# Altium footprint library PCB_PassiveRes.PcbLib: 7 footprints
Each footprint in its own frame and in the unit in brackets; x right, y up, seen from the top. Pads: shape width x height; smd on the part's side, far side on the other; paste and mask are expansions set on the pad; w line width, h text height; cw(c..) or ccw(c..) is an arc to the next point about the centre after c.
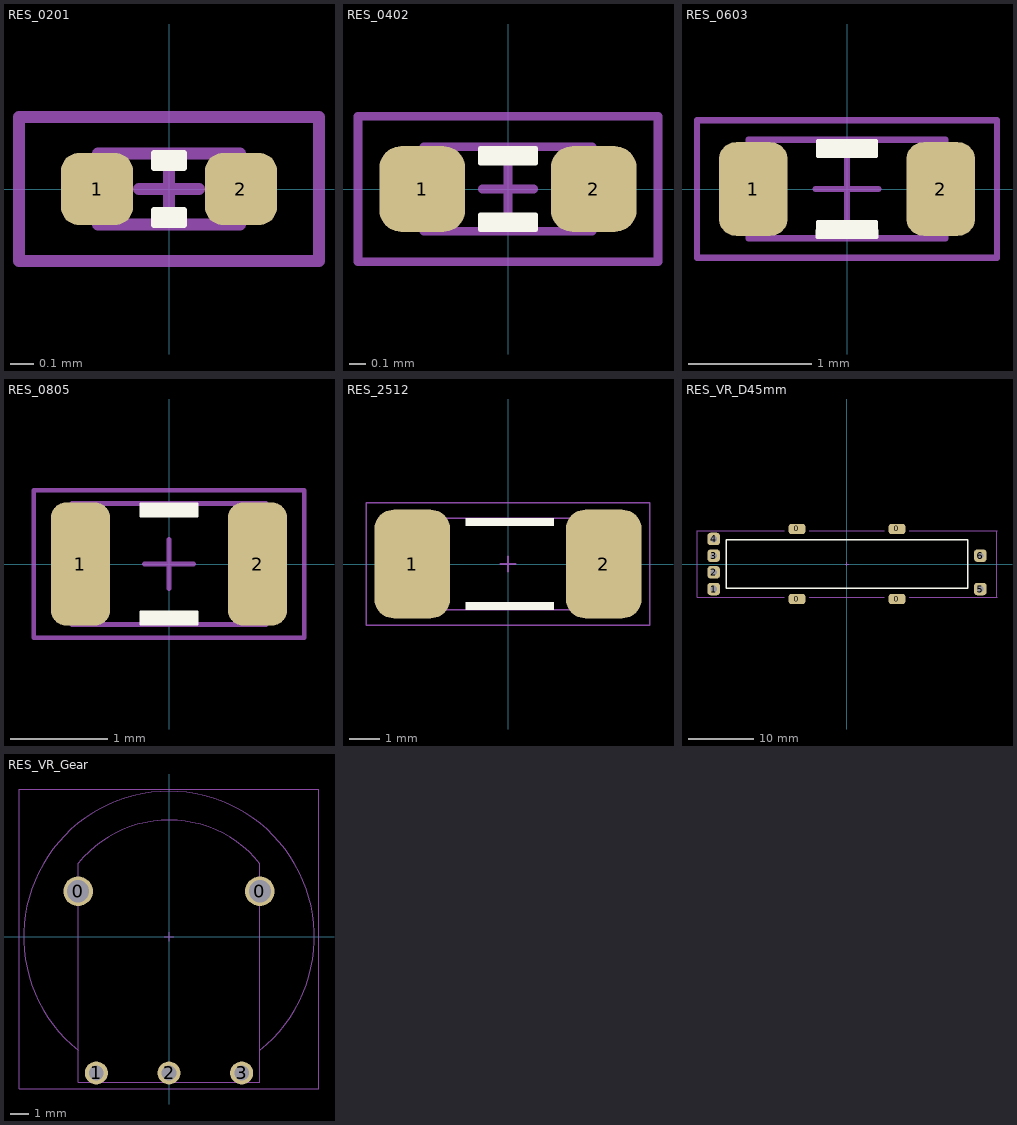
[diagram p0: the footprints below, top view; thin cyan lines are the x and y axes]

## RES_0201 [mil]
height 9.06
pads (2):
  rrect50% 12x12 smd: 1(-12,0) 2(12,0)
Top Overlay:
  region: -2.5,6 2.5,6 2.5,3.5 -2.5,3.5
  region: 2.5,-6 -2.5,-6 -2.5,-3.5 2.5,-3.5
  lines w1: -2.5,-6 -2.5,-3.5 2.5,-3.5 2.5,-6 -2.5,-6 ; -2.5,3.5 2.5,3.5 2.5,6 -2.5,6 -2.5,3.5
Mechanical 13:
  lines w2: -5,0 5,0 ; 0,-5 0,5 ; -11.81,-5.91 -11.81,5.91 11.81,5.91 11.81,-5.91 -11.81,-5.91
T-Component:
  lines w2: -25,-12 -25,12 25,12 25,-12 -25,-12
  text ".Designator" at -20,-7.5 h15
3D body "RESC0603X02L.step": height 9.06, standoff 0, extent -11.81,-5.9 11.81,5.91

## RES_0402 [mil]
height 13.78
pads (2):
  rrect50% 20x20 smd: 1(-20,0) 2(20,0)
Top Overlay:
  region: 6.5,-9.5 -6.5,-9.5 -6.5,-6 6.5,-6
  region: -6.5,9.5 6.5,9.5 6.5,6 -6.5,6
  lines w1: -6.5,-9.5 6.5,-9.5 6.5,-6 -6.5,-6 -6.5,-9.5 ; -6.5,6 -6.5,9.5 6.5,9.5 6.5,6 -6.5,6
Mechanical 13:
  lines w2: -6,0 6,0 ; 0,-6 0,6 ; -19.69,-9.84 -19.69,9.84 19.68,9.84 19.68,-9.84 -19.69,-9.84
T-Component:
  lines w2: -35,-17 35,-17 35,17 -35,17 -35,-17
  text ".Designator" at -25,-10 h20
3D body "RESC1005X03L.step": height 13.78, standoff 0, extent -19.68,-9.84 19.69,9.85

## RES_0603 [mil]
height 17.72
pads (2):
  rrect50% 22x30 smd: 1(-30,0) 2(30,0)
Top Overlay:
  region: 9.5,-15.5 -9.5,-15.5 -9.5,-10.5 9.5,-10.5
  region: -9.5,15.5 9.5,15.5 9.5,10.5 -9.5,10.5
  lines w1: -9.5,-15.5 -9.5,-10.5 9.5,-10.5 9.5,-15.5 -9.5,-15.5 ; -9.5,10.5 9.5,10.5 9.5,15.5 -9.5,15.5 -9.5,10.5
Mechanical 13:
  lines w2: -10,0 10,0 ; 0,-10 0,10 ; -31.5,-15.75 31.5,-15.75 31.5,15.75 -31.5,15.75 -31.5,-15.75
T-Component:
  lines w2: -48,-22 -48,22 48,22 48,-22 -48,-22
  text ".Designator" at -35,-15 h30
3D body "RESC1608X05L.step": height 17.72, standoff 0, extent -31.49,-15.74 31.5,15.75

## RES_0805 [mil]
height 23.62
pads (2):
  rrect50% 24x50 smd: 1(-36,0) 2(36,0)
Top Overlay:
  region: -11.5,24.5 11.5,24.5 11.5,19.5 -11.5,19.5
  region: 11.5,-24.5 -11.5,-24.5 -11.5,-19.5 11.5,-19.5
  lines w1: -11.5,-24.5 -11.5,-19.5 11.5,-19.5 11.5,-24.5 -11.5,-24.5 ; -11.5,19.5 11.5,19.5 11.5,24.5 -11.5,24.5 -11.5,19.5
Mechanical 13:
  lines w2: -10,0 10,0 ; 0,-10 0,10 ; -39.37,-24.61 -39.37,24.61 39.37,24.61 39.37,-24.61 -39.37,-24.61
T-Component:
  lines w2: -55,-30 55,-30 55,30 -55,30 -55,-30
  text ".Designator" at -45,-20 h35
3D body "RESC2012X06L.step": height 23.62, standoff 0, extent -39.37,-24.6 39.37,24.61

## RES_2512 [mm]
pads (2):
  rrect50% 2.5x3.6 smd: 1(-3.175,0) 2(3.175,0)
Top Overlay:
  region: -1.397,-1.27 1.524,-1.27 1.524,-1.524 -1.397,-1.524
  region: -1.397,1.524 1.524,1.524 1.524,1.27 -1.397,1.27
Mechanical 13:
  lines w0.051: -0.254,0 0.254,0 ; 0,-0.254 0,0.254 ; -4.064,-1.524 3.937,-1.524 3.937,1.524 -4.064,1.524 -4.064,-1.524
T-Component:
  lines w0.051: -4.699,-2.032 -4.699,2.032 4.699,2.032 4.699,-2.032 -4.699,-2.032
  text ".Designator" at -1.448,-0.406 h2.03
3D body "RESC2012X06L.step": height 0.6, standoff 0, extent -1.016,-0.625 0.984,0.625
3D body: height 0.25, standoff 0, extent -1.397,1.778 -1.397,1.778
3D body: height 0.25, standoff 0, extent 0.508,1.016 0.508,1.016

## RES_VR_D45mm [mil]
pads (10):
  rrect50% 100x60 smd: 0(-300,-210) 0(-300,210) 0(300,-210) 0(300,210)
  rrect50% 75x75 hole 39.37: 1(-800,-150) 2(-800,-50) 3(-800,50) 4(-800,150) 5(800,-150) 6(800,50)
Top Overlay:
  lines w10: -725,-145 -725,145 725,145 725,-145 -725,-145
Mechanical 13:
  lines w2: -10,0 10,0 ; 0,-10 0,10
  lines w4: -375,-200 -900,-200 -900,200 -375,200 ; -225,-200 225,-200 ; -225,200 225,200 ; 375,-200 900,-200 900,200 375,200

## RES_VR_Gear [mil]
height 27.56
pads (5):
  round 64 hole 48: 0(-196.85,98.43) 0(196.85,98.43)
  round 50 hole 32: 1(-157.48,-295.28) 2(0,-295.28) 3(157.48,-295.28)
Mechanical 13:
  lines w2: -196.88,-245.85 cw(c0,0) 196.88,-245.85 ; -196.85,158.78 -196.85,-315 196.85,-315 196.85,158.1 ; -196.68,158.64 cw(c0,0) 197.01,158.23 ; -10,0 10,0 ; 0,-10 0,10
T-Component:
  lines w2: -325,-330 -325,320 325,320 325,-330 -325,-330
  text ".Designator" at -70,-30 h50